# Altium schematic symbol library Thermistor NTC.Schlib: 1 symbol
Pins are listed as number, name and electrical type; pins without a type are passive.

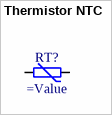
[diagram p0: symbol Thermistor NTC]

## Thermistor NTC
designator RT?
Thermistor NTC (Negative Temperature Coefficient)
pins: 1, 2